# Altium footprint library rf_new.PcbLib: 8 footprints
Each footprint in its own frame and in the unit in brackets; x right, y up, seen from the top. Pads: shape width x height; smd on the part's side, far side on the other; paste and mask are expansions set on the pad; w line width, h text height; cw(c..) or ccw(c..) is an arc to the next point about the centre after c.
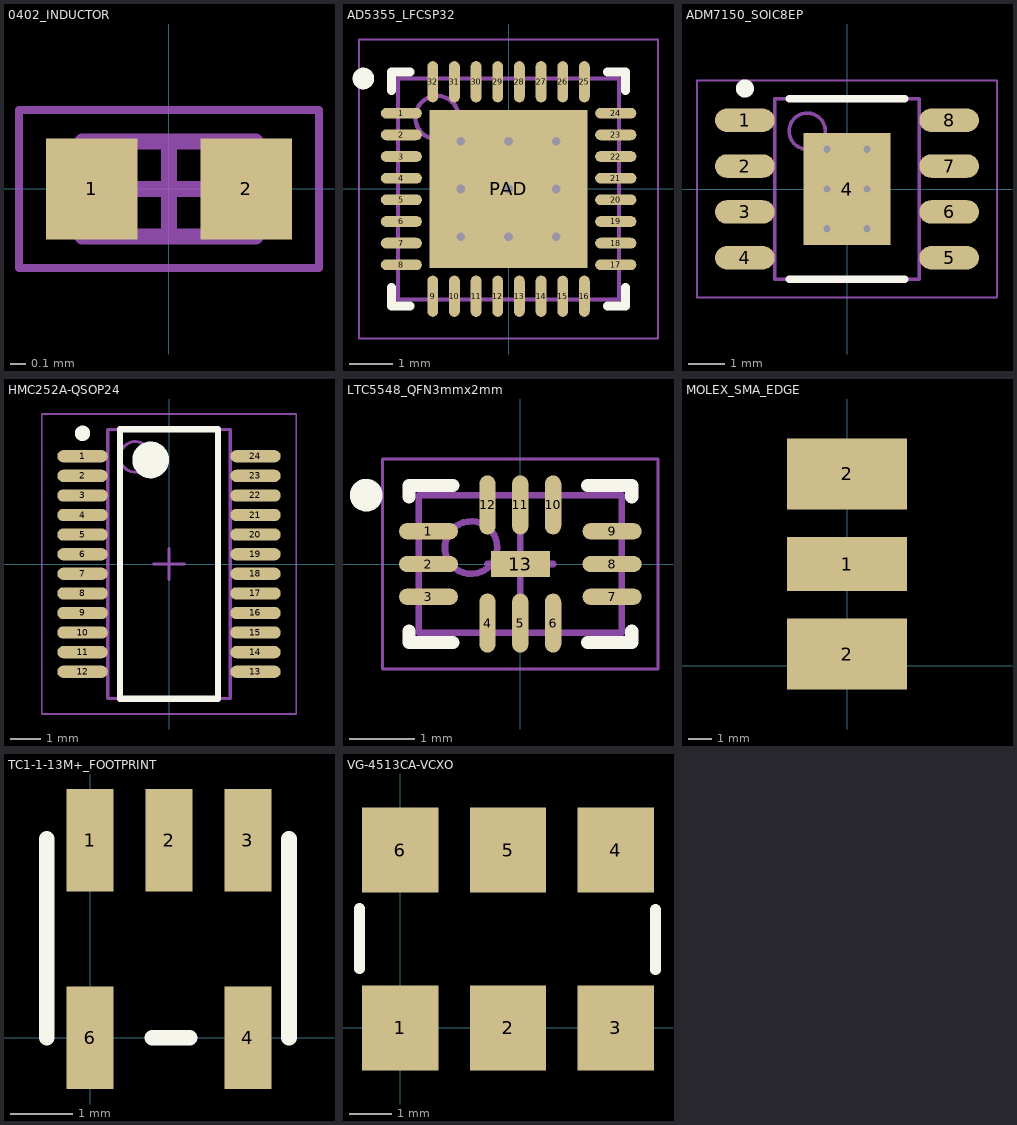
[diagram p0: the footprints below, top view; thin cyan lines are the x and y axes]

## 0402_INDUCTOR [mm] "Chip Inductor, 2-Leads, Body 1.00x0.50mm, IPC Medium Density"
height 0.6
pads (2):
  rect 0.58x0.64 smd: 1(-0.49,0) 2(0.49,0)
Mechanical 13:
  lines w0.1: -0.55,-0.3 0.55,-0.3 0.55,0.3 -0.55,0.3 -0.55,-0.3
Mechanical 15:
  lines w0.05: -0.95,-0.5 0.95,-0.5 0.95,0.5 -0.95,0.5 -0.95,-0.5
  lines w0.1: -0.3,0 0.3,0 ; 0,-0.3 0,0.3
3D body "INDC1005X06N.step": height 0.6, standoff 0, extent -0.55,-0.3 0.55,0.3

## AD5355_LFCSP32 [mm] "QFN, 32-Leads, Body 5.00x5.00mm, Pitch 0.50mm, Thermal Pad 3.65x3.65mm, IPC Low Density"
height 0.8
pads (33):
  oval 0.95x0.25 smd: 1(-2.475,1.75) 2(-2.475,1.25) 3(-2.475,0.75) 4(-2.475,0.25) 5(-2.475,-0.25) 6(-2.475,-0.75) 7(-2.475,-1.25) 8(-2.475,-1.75) 17(2.475,-1.75) 18(2.475,-1.25) 19(2.475,-0.75) 20(2.475,-0.25) 21(2.475,0.25) 22(2.475,0.75) 23(2.475,1.25) 24(2.475,1.75)
  oval 0.25x0.95 smd: 9(-1.75,-2.475) 10(-1.25,-2.475) 11(-0.75,-2.475) 12(-0.25,-2.475) 13(0.25,-2.475) 14(0.75,-2.475) 15(1.25,-2.475) 16(1.75,-2.475) 25(1.75,2.475) 26(1.25,2.475) 27(0.75,2.475) 28(0.25,2.475) 29(-0.25,2.475) 30(-0.75,2.475) 31(-1.25,2.475) 32(-1.75,2.475)
  rect 3.65x3.65 smd: PAD(0,0)
via -1.1,1.1 diameter 0.5 hole 0.2
via 0,1.1 diameter 0.5 hole 0.2
via 1.1,1.1 diameter 0.5 hole 0.2
via -1.1,0 diameter 0.5 hole 0.2
via 0,0 diameter 0.5 hole 0.2
via 1.1,0 diameter 0.5 hole 0.2
via -1.1,-1.1 diameter 0.5 hole 0.2
via 0,-1.1 diameter 0.5 hole 0.2
via 1.1,-1.1 diameter 0.5 hole 0.2
Top Overlay:
  circle w0.25: c-3.35,2.55 r0.125
  lines w0.2: -2.7,-2.275 -2.7,-2.7 -2.275,-2.7 ; -2.7,2.275 -2.7,2.7 -2.275,2.7 ; 2.275,-2.7 2.7,-2.7 2.7,-2.275 ; 2.275,2.7 2.7,2.7 2.7,2.275
Mechanical 13:
  circle w0.1: c-1.65,1.65 r0.5
  lines w0.1: -2.55,-2.55 -2.55,2.55 2.55,2.55 2.55,-2.55 -2.55,-2.55
Mechanical 15:
  lines w0.05: -3.45,-3.45 -3.45,3.45 3.45,3.45 3.45,-3.45 -3.45,-3.45
  lines w0.1: -0.5,0 0.5,0 ; 0,-0.5 0,0.5
3D body "QFN50P500X500X80_HS-33M.step": height 0.8, standoff 0, extent -2.57,-2.57 2.57,2.57

## ADM7150_SOIC8EP [mm] "SOIC, 8-Leads, Body 4.90x3.90mm, Pitch 1.27mm, Thermal Pad 3.10x2.41mm, IPC Low Density"
height 1.75
pads (9):
  oval 1.65x0.65 smd: 1(-2.825,1.905) 2(-2.825,0.635) 3(-2.825,-0.635) 4(-2.825,-1.905) 5(2.825,-1.905) 6(2.825,-0.635) 7(2.825,0.635) 8(2.825,1.905)
  rect 2.41x3.1 smd: 4(0,0)
via 0.55,-1.1 diameter 0.5 hole 0.2
via -0.55,-1.1 diameter 0.5 hole 0.2
via 0.55,0 diameter 0.5 hole 0.2
via -0.55,0 diameter 0.5 hole 0.2
via 0.55,1.1 diameter 0.5 hole 0.2
via -0.55,1.1 diameter 0.5 hole 0.2
Top Overlay:
  circle w0.25: c-2.825,2.78 r0.125
  lines w0.2: -1.6,-2.5 1.6,-2.5 ; -1.6,2.5 1.6,2.5
Mechanical 13:
  circle w0.1: c-1.1,1.6 r0.5
  lines w0.1: -2,-2.5 2,-2.5 2,2.5 -2,2.5 -2,-2.5
Mechanical 15:
  lines w0.05: -4.15,-3 4.15,-3 4.15,3 -4.15,3 -4.15,-3
  lines w0.1: -0.5,0 0.5,0 ; 0,-0.5 0,0.5
3D body "SOIC127P600X175_HS-9M.step": height 1.75, standoff 0, extent -3,-2.5 3,2.5

## HMC252A-QSOP24 [mm] "SOP, 24-Leads, Body 8.65x3.90mm, Pitch 0.64mm, IPC Low Density"
height 1.75
pads (24):
  oval 1.65x0.4 smd: 1(-2.825,3.52) 2(-2.825,2.88) 3(-2.825,2.24) 4(-2.825,1.6) 5(-2.825,0.96) 6(-2.825,0.32) 7(-2.825,-0.32) 8(-2.825,-0.96) 9(-2.825,-1.6) 10(-2.825,-2.24) 11(-2.825,-2.88) 12(-2.825,-3.52) 13(2.825,-3.52) 14(2.825,-2.88) 15(2.825,-2.24) 16(2.825,-1.6) 17(2.825,-0.96) 18(2.825,-0.32) 19(2.825,0.32) 20(2.825,0.96) 21(2.825,1.6) 22(2.825,2.24) 23(2.825,2.88) 24(2.825,3.52)
Top Overlay:
  circle w0.25: c-2.825,4.27 r0.125
  circle w0.6: c-0.6,3.4 r0.3
  lines w0.2: -1.6,-4.4 -1.6,4.4 1.6,4.4 1.6,-4.4 -1.6,-4.4
Mechanical 13:
  circle w0.1: c-1.1,3.5 r0.5
  lines w0.1: -2,-4.4 -2,4.4 2,4.4 2,-4.4 -2,-4.4
Mechanical 15:
  lines w0.05: -4.15,-4.9 -4.15,4.9 4.15,4.9 4.15,-4.9 -4.15,-4.9
  lines w0.1: -0.5,0 0.5,0 ; 0,-0.5 0,0.5
3D body "SOP64P600X175-24M.step": height 1.75, standoff 0, extent -3,-4.4 3,4.4

## LTC5548_QFN3mmx2mm [mm] "QFN, 12-Leads, Body 3.00x2.00mm, Pitch 0.50mm, Thermal Pad 0.75x0.50mm, IPC Medium Density"
height 0.75
pads (13):
  oval 0.9x0.25 smd: 1(-1.4,0.5) 2(-1.4,0) 3(-1.4,-0.5) 7(1.4,-0.5) 8(1.4,0) 9(1.4,0.5)
  oval 0.25x0.9 smd: 4(-0.5,-0.9) 5(0,-0.9) 6(0.5,-0.9) 10(0.5,0.9) 11(0,0.9) 12(-0.5,0.9)
  rect 0.9x0.4 smd: 13(0,0)
Top Overlay:
  circle w0.25: c-2.35,1.05 r0.125
  lines w0.2: -1.7,-1.025 -1.7,-1.2 -1.025,-1.2 ; -1.7,1.025 -1.7,1.2 -1.025,1.2 ; 1.025,-1.2 1.7,-1.2 1.7,-1.025 ; 1.025,1.2 1.7,1.2 1.7,1.025
Mechanical 13:
  circle w0.1: c-0.75,0.25 r0.4
  lines w0.1: -1.55,-1.05 -1.55,1.05 1.55,1.05 1.55,-1.05 -1.55,-1.05
Mechanical 15:
  lines w0.05: -2.1,-1.6 -2.1,1.6 2.1,1.6 2.1,-1.6 -2.1,-1.6
  lines w0.1: -0.5,0 0.5,0 ; 0,-0.5 0,0.5
3D body "QFN50P300X200X75_HS-13N.step": height 0.75, standoff 0, extent -1.6,-1.1 1.6,1.1

## MOLEX_SMA_EDGE [mm]
pads (3):
  rect 5.08x2.286 smd: 1(0,4.318)
  rect 5.08x3 all layers, no hole: 2(0,0.5) 2(0,8.136)
3D body "732511150.stp": height 4.32, standoff -3.61, extent -12.243,-0.444 2.032,9.081

## TC1-1-13M+_FOOTPRINT [mm]
pads (5):
  rect 0.76x1.65 smd: 1(0,3.18) 2(1.27,3.18) 3(2.54,3.18) 4(2.54,0) 6(0,0)
Top Overlay:
  lines w0.254: -0.7,0 -0.7,3.2 ; 1,0 1.6,0 ; 3.2,0 3.2,3.2
3D body: height 4.06, standoff 0, extent -0.7,0 3.2,3.2

## VG-4513CA-VCXO [mm]
pads (6):
  rect 1.8x2 smd: 1(0,0) 2(2.54,0) 3(5.08,0) 4(5.08,4.2) 5(2.54,4.2) 6(0,4.2)
Top Overlay:
  lines w0.254: -0.965,1.397 -0.965,2.819 ; 6.02,1.372 6.02,2.794
3D body: height 1.4, standoff 0.1, extent -0.952,-0.381 6.033,4.699
3D body: height 1.6, standoff 0.15, extent -0.762,-0.254 5.842,4.445
3D body: height 1.1, standoff 0, extent -0.33,-0.47 0.33,-0.343
3D body: height 1.1, standoff 0, extent 2.21,-0.444 2.87,-0.317
3D body: height 1.1, standoff 0, extent 4.75,-0.47 5.41,-0.343
3D body: height 1.1, standoff 0, extent -0.33,4.636 0.33,4.763
3D body: height 1.1, standoff 0, extent 2.21,4.636 2.87,4.763
3D body: height 1.1, standoff 0, extent 4.75,4.636 5.41,4.763